# EAGLE library part FEATHER_HUZZAH_ESP8266 (library adafruit-supplemental-arkane)
Adafruit Feather HUZZAH ESP8266.
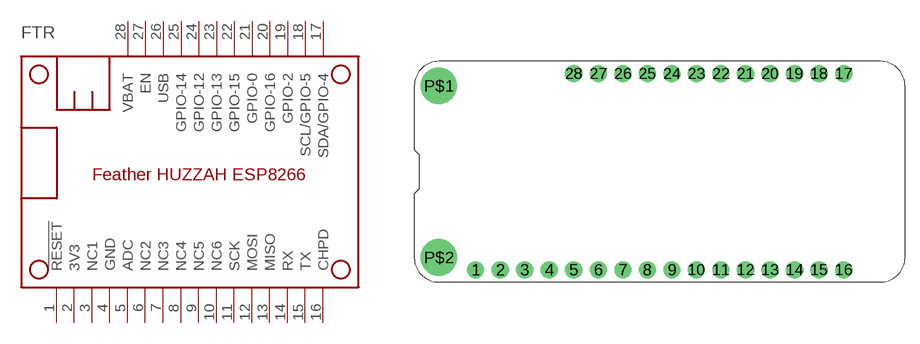
[diagram p0: symbol with the pads of FEATHER; footprint FEATHER]

Designator prefix FTR

## FEATHER_HUZZAH_ESP8266  [FEATHER]
1  !RESET
2  3V3  sup
3  NC1  nc
4  GND  sup
5  ADC
6  NC2  nc
7  NC3  nc
8  NC4  nc
9  NC5  nc
10  NC6  nc
11  SCK
12  MOSI
13  MISO
14  RX
15  TX
16  CHPD  pas
17  SDA/GPIO-4
18  SCL/GPIO-5
19  GPIO-2
20  GPIO-16
21  GPIO-0
22  GPIO-15
23  GPIO-13
24  GPIO-12
25  GPIO-14
26  USB  pas
27  EN  pas
28  VBAT  pas

## Footprint FEATHER (pad centres in mm)
Basic layout for Adafruit Feathers.
drill 1 pad 1.778: 1 6.35,1.27; 2 8.89,1.27; 3 11.43,1.27; 4 13.97,1.27; 5 16.51,1.27; 6 19.05,1.27; 7 21.59,1.27; 8 24.13,1.27; 9 26.67,1.27; 10 29.21,1.27; 11 31.75,1.27; 12 34.29,1.27; 13 36.83,1.27; 14 39.37,1.27; 15 41.91,1.27; 16 44.45,1.27; 17 44.45,21.59; 18 41.91,21.59; 19 39.37,21.59; 20 36.83,21.59; 21 34.29,21.59; 22 31.75,21.59; 23 29.21,21.59; 24 26.67,21.59; 25 24.13,21.59; 26 21.59,21.59; 27 19.05,21.59; 28 16.51,21.59
drill 2.5 pad 3.81: P$1 2.54,20.32; P$2 2.54,2.54